# Altium footprint library SD_smd.PcbLib: 1 footprints
Each footprint in its own frame and in the unit in brackets; x right, y up, seen from the top. Pads: shape width x height; smd on the part's side, far side on the other; paste and mask are expansions set on the pad; w line width, h text height; cw(c..) or ccw(c..) is an arc to the next point about the centre after c.
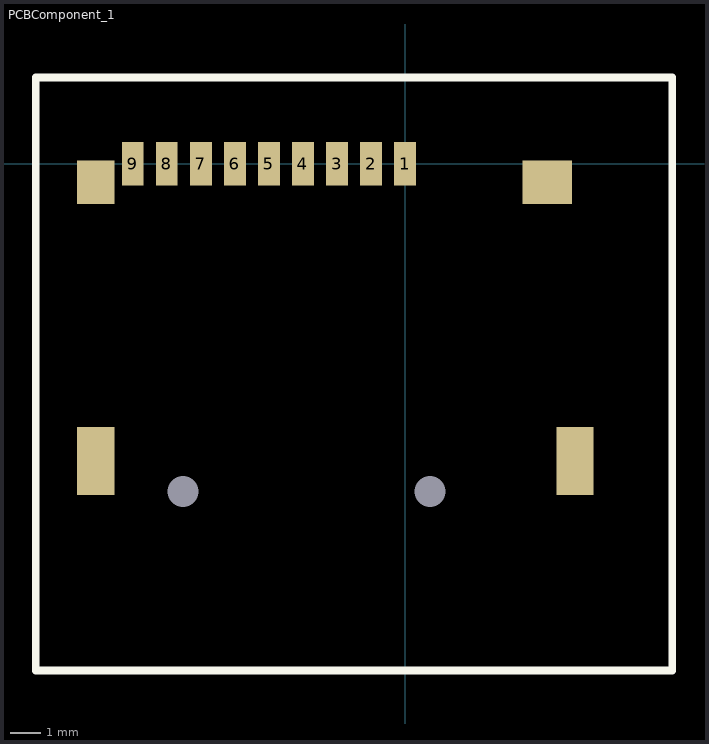
[diagram p0: the footprint, top view; thin cyan lines are the x and y axes]

## PCBComponent_1 [mm]
pads (15):
  rect 0.7x1.4 smd: 1(0,0) 2(-1.1,0) 3(-2.2,0) 4(-3.3,0) 5(-4.4,0) 6(-5.5,0) 7(-6.6,0) 8(-7.7,0) 9(-8.8,0)
  rect 1.2x2.2 smd: ""(-10,-9.6) ""(5.5,-9.6)
  rect 1.2x1.4 smd: ""(-10,-0.6)
  rect 0x0 hole 1: ""(-7.18,-10.6) ""(0.8,-10.6)
  rect 1.6x1.4 smd: ""(4.6,-0.6)
Top Overlay:
  lines w0.254: -11.938,-16.383 8.636,-16.383 8.636,2.794 -11.938,2.794 -11.938,-16.383